# Altium footprint library Motor_Drive.PcbLib: 37 footprints (part 2 of 3)
Each footprint in its own frame and in the unit in brackets; x right, y up, seen from the top. Pads: shape width x height; smd on the part's side, far side on the other; paste and mask are expansions set on the pad; w line width, h text height; cw(c..) or ccw(c..) is an arc to the next point about the centre after c.
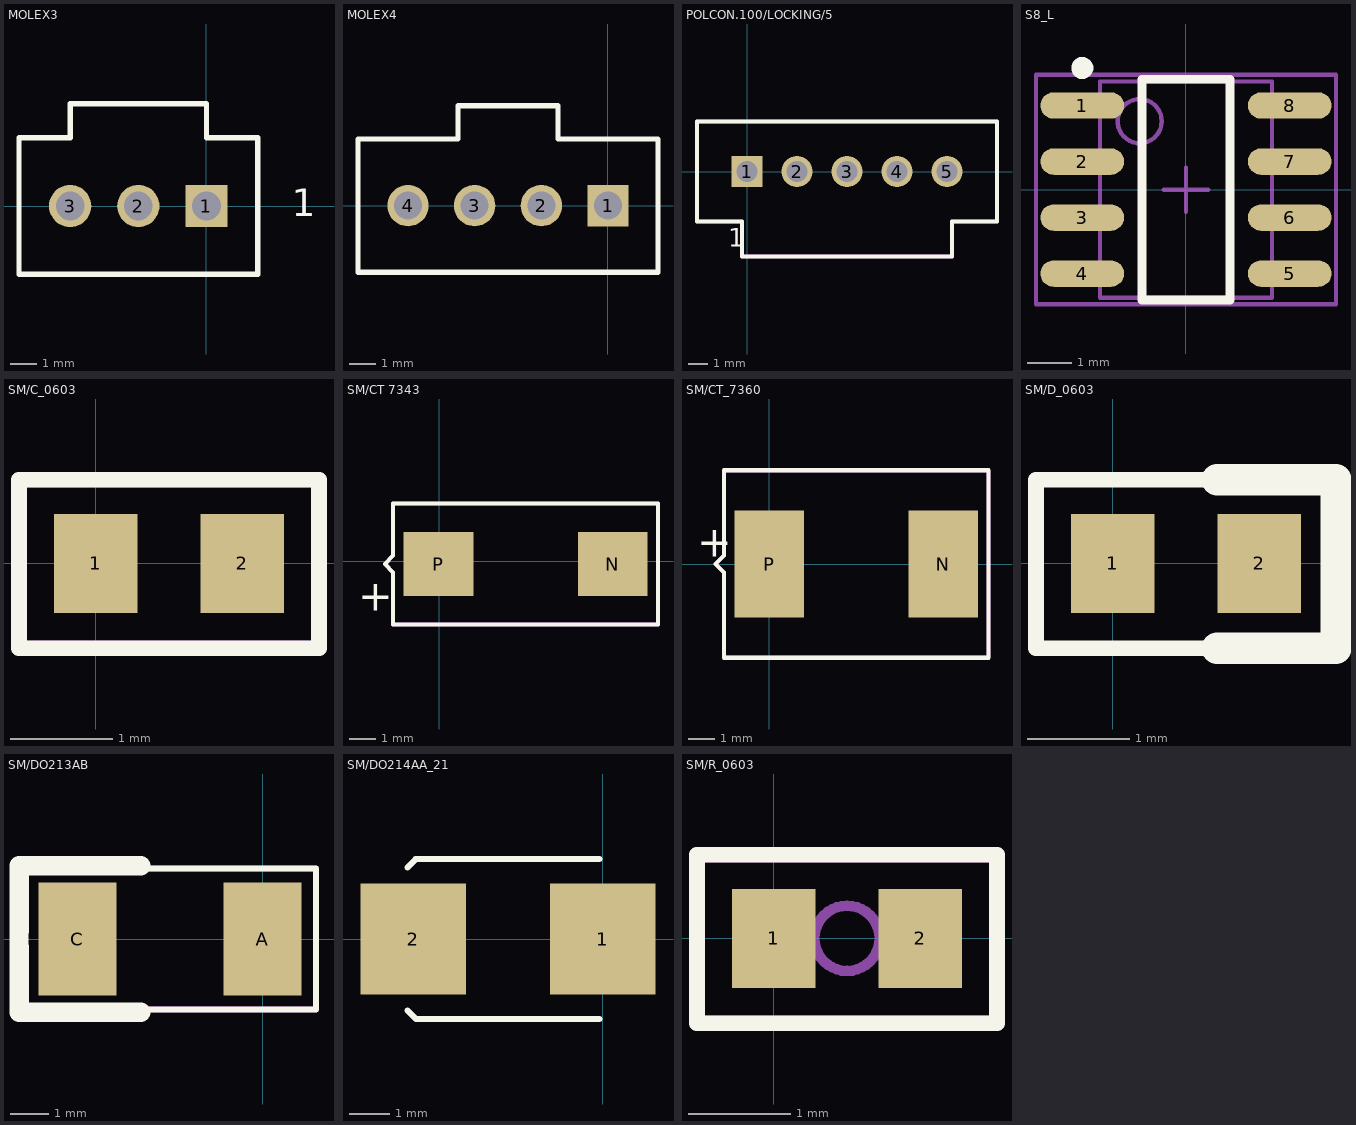
[diagram p1: the footprints below, top view; thin cyan lines are the x and y axes]

## MOLEX3 [mil] "C-GRID"
height 270.08
pads (3):
  rect 62x62 hole 42: 1(0,0)
  round 62 hole 42: 2(-100,0) 3(-200,0)
Top Overlay:
  lines w8: -275,-100 -275,100 -200,100 -200,150 0,150 0,100 75,100 75,-100 -275,-100
  text "1" at 125,-15 h40

## MOLEX4 [mil]
height 270.08
pads (4):
  rect 62x62 hole 42: 1(0,0)
  round 62 hole 42: 2(-100,0) 3(-200,0) 4(-300,0)
Top Overlay:
  lines w8: -375,-100 -375,100 -225,100 -225,150 -75,150 -75,100 75,100 75,-100 -375,-100

## PCBComponent_1 [mil]

## PCBComponent_1 - duplicate [mil]

## PCBComponent_1 - duplicate1 [mil]

## PCBComponent_1 - duplicate2 [mil]

## PCBComponent_1 - duplicate3 [mil]

## POLCON.100/LOCKING/5 [mil]
pads (5):
  rect 62x62 / inner round 60 / far side rect 62x62 hole 42: 1(0,0)
  round 62 / inner round 60 / far side round 62 hole 42: 2(100,0) 3(200,0) 4(300,0) 5(400,0)
Top Overlay:
  lines w8: -100,-100 -10,-100 -10,-170 410,-170 410,-100 500,-100 500,100 -100,100 -100,-100
  text "1" at -38,-150 h37.5
Mechanical 1:
  lines w8: -100,-100 -100,100 500,100 500,-100 410,-100 410,-170 -10,-170 -10,-100 -100,-100

## S8_L [mm] "8-Pin Small Outline Integrated Circuit 1.27 mm Pitch, IPC High Density"
height 1.76
pads (8):
  oval 1.9x0.6 smd: 1(-2.35,1.905) 2(-2.35,0.635) 3(-2.35,-0.635) 4(-2.35,-1.905) 5(2.35,-1.905) 6(2.35,-0.635) 7(2.35,0.635) 8(2.35,1.905)
Top Overlay:
  circle w0.25: c-2.35,2.755 r0.125
  lines w0.2: -1,-2.5 1,-2.5 1,2.5 -1,2.5 -1,-2.5
Mechanical 13:
  circle w0.1: c-1.05,1.55 r0.5
  lines w0.1: -1.95,-2.45 1.95,-2.45 1.95,2.45 -1.95,2.45 -1.95,-2.45
Mechanical 15:
  lines w0.1: -0.5,0 0.5,0 ; 0,-0.5 0,0.5 ; -3.4,-2.6 3.4,-2.6 3.4,2.6 -3.4,2.6 -3.4,-2.6
3D body: height 1.76, standoff 0, extent -1.95,-2.45 1.95,2.45

## SM/C_0603 [mil]
height 265
pads (2):
  rect 32x38 smd: 1(0,0) 2(56,0)
Top Overlay:
  lines w6: -29.5,-32.5 -29.5,32 85.5,32 85.5,-32.5 -29.5,-32.5
Mechanical 1:
  lines w6: -29.5,-32.5 -29.5,32 85.5,32 85.5,-32.5 -29.5,-32.5

## SM/CT 7343 [mil]
pads (2):
  rect 104x96 smd: N(259,-4) P(-1,-4)
Top Overlay:
  lines w6: -81,-4 -68.5,8.5 -68.5,86 326.5,86 326.5,-94 -68.5,-94 -68.5,-16.5 -81,-4
  text "+" at -121,-74 h45
Mechanical 1:
  lines w6: -81,-4 -68.5,8.5 -68.5,86 326.5,86 326.5,-94 -68.5,-94 -68.5,-16.5 -81,-4

## SM/CT_7360 [mil]
height 270.08
pads (2):
  rect 104x160 smd: N(260,0) P(0,0)
Top Overlay:
  lines w6: -80,0 -67.5,-12.5 -67.5,-140 327.5,-140 327.5,140 -67.5,140 -67.5,12.5 -80,0
  text "+" at -107.96,11 h45
Mechanical 1:
  lines w6: -80,0 -67.5,-12.5 -67.5,-140 327.5,-140 327.5,140 -67.5,140 -67.5,12.5 -80,0

## SM/D_0603 [mil] "0603 Diode"
pads (2):
  rect 32x38 smd: 1(0,0) 2(56,0)
Top Overlay:
  lines w6: -29.5,-32.5 -29.5,32 85.5,32 85.5,-32.5 -29.5,-32.5
  lines w12: 40,-32.5 85.5,-32.5 85.5,32 40,32

## SM/DO213AB [mil]
pads (2):
  rect 80x116 smd: A(0,0) C(-190,0)
Top Overlay:
  lines w6: -250,0 -242.5,-7.5 -242.5,-72.5 55,-72.5 55,72.5 -242.5,72.5 -242.5,7.5 -250,0
  lines w20: -125,-75 -250,-75 -250,75 -125,75
Mechanical 1:
  lines w6: -250,0 -242.5,-7.5 -242.5,-72.5 55,-72.5 55,72.5 -242.5,72.5 -242.5,7.5 -250,0

## SM/DO214AA_21 [mil]
pads (2):
  rect 103x108 smd: 1(0,0) 2(-185,0)
Top Overlay:
  lines w6: -190.5,-70 -182.5,-78 -3,-78 ; -190.5,70 -183,77.5 ; -183,78 -3,78

## SM/R_0603 [mil]
pads (2):
  rect 32x38 smd: 1(0,0) 2(56,0)
Top Overlay:
  lines w6: -29.5,-32.5 85.5,-32.5 85.5,32 -29.5,32 -29.5,-32.5
Mechanical 1:
  lines w6: -29.5,-32.5 85.5,-32.5 85.5,32 -29.5,32 -29.5,-32.5
Mechanical 3:
  lines w4: 15.5,0 ccw(c28,0) 28,-12.5 ccw(c28,0) 40.5,0 ccw(c28,0) 28,12.5 ccw(c28,0) 15.5,0